# Altium schematic symbol library Connectors.SchLib: 14 symbols
Pins are listed as number, name and electrical type; pins without a type are passive.

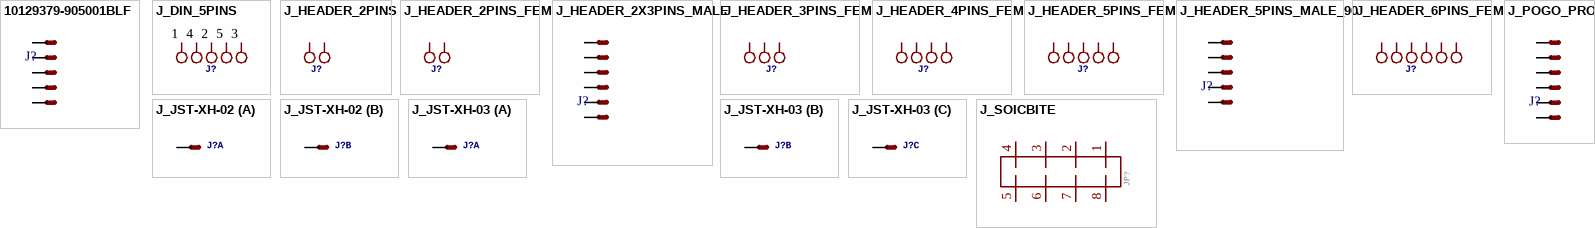
[diagram p0: symbols 10129379-905001BLF to J_SOICBITE]

## 10129379-905001BLF
designator J?
Conn Unshrouded Header HDR 5 POS 2.54mm Solder RA Thru-Hole Poly Bag; Manufacturer: ICC; Manufacturer Part Number: 10129379-905001BLF; Supplier 1: Mouser; Supplier Part Number 1: 649-1012937990501BLF; Stock: 5866; Pricing: 1=0.26000, 10=0.18200, 100=0.15000, 1000=0.12500, 2500=0.11200, 10000=0.09600, 25000=0.09500, 50000=0.09300, 100000=0.08900 (USD); ComponentLink1URL: http://datasheet.octopart.com/10129379-905001BLF-Amphenol-ICC-datasheet-100454231.pdf?src-supplier=Newark; ComponentLink1Description: http://datasheet.octopart.com/10129379-905001BLF-Amphenol-ICC-datasheet-100454231.pdf?src-supplier=Newark; ComponentLink2URL: http://datasheet.octopart.com/10129379-905001BLF-ICC-datasheet-100454231.pdf?src-supplier=Newark; ComponentLink2Description: http://datasheet.octopart.com/10129379-905001BLF-ICC-datasheet-100454231.pdf?src-supplier=Newark; Price: 0.154
footprint HEADER_5PINS_MALE_90
pins: 1 S, 2 S, 3 S, 4 S, 5 S

## J_DIN_5PINS
designator J?
5 Pins DIN female connector; Pin spacing: 2.54mm; Price: 0.01
footprint DIN_5PINS
pins: 1, 2, 3, 4, 5

## J_HEADER_2PINS
designator J?
2 Pins male header; Pin spacing: 2.54mm; Price: 0.01
footprint HEADER_2PINS
pins: 1, 2

## J_HEADER_2PINS_FEM
designator J?
2 Pins female header; Pin spacing: 2.54mm; Price: 0.01
footprint HEADER_2Pins_FEM
pins: 1, 2

## J_HEADER_2X3PINS_MALE
designator J?
footprint HEADER_2X3PINS_MALE
pins: 1 S, 2 S, 3 S, 4 S, 5 S, 6 S

## J_HEADER_3PINS_FEM
designator J?
3 Pins female header; Pin spacing: 2.54mm; Price: 0.01
footprint HEADER_3Pins_FEM
pins: 1, 2, 3

## J_HEADER_4PINS_FEM
designator J?
4 Pins female header; Pin spacing: 2.54mm; Price: 0.01
footprint HEADER_4Pins_FEM
pins: 1, 2, 3, 4

## J_HEADER_5PINS_FEM
designator J?
5 Pins female header; Pin spacing: 2.54mm; Price: 0.01
footprint HEADER_5Pins_FEM
pins: 1, 2, 3, 4, 5

## J_HEADER_5PINS_MALE_90
designator J?
footprint HEADER_5PINS_MALE_90
pins: 1 S, 2 S, 3 S, 4 S, 5 S

## J_HEADER_6PINS_FEM
designator J?
5 Pins female header; Pin spacing: 2.54mm; Price: 0.01
footprint HEADER_6Pins_FEM
pins: 1, 2, 3, 4, 5, 6

## J_JST-XH-02
designator J?
2 Pins male XH header; Price: 0.1
footprint JST-XH-02
part A pins: 2 S
part B pins: 1 S

## J_JST-XH-03
designator J?
3 Pins male XH header
footprint JST-XH-03
part A pins: 1 S
part B pins: 2 S
part C pins: 3 S

## J_POGO_PROG
designator J?
footprint POGO_PROG
pins: 1 S, 2 S, 3 S, 4 S, 5 S, 6 S

## J_SOICBITE
designator JP?
GateName_1: G$1; SymbolName_1: SOICBITE; LibraryName: SOICbite_Eagle; DeviceSetName: SOICBITE; Package: SOICBITE
footprint SOICBITE
pins: 1 P$1, 2 P$2, 3 P$3, 4 P$4, 5 P$5, 6 P$6, 7 P$7, 8 P$8